# Altium schematic symbol library Summits7Beta_LIB_Otros_Sch.SchLib: 7 symbols
Pins are listed as number, name and electrical type; pins without a type are passive.

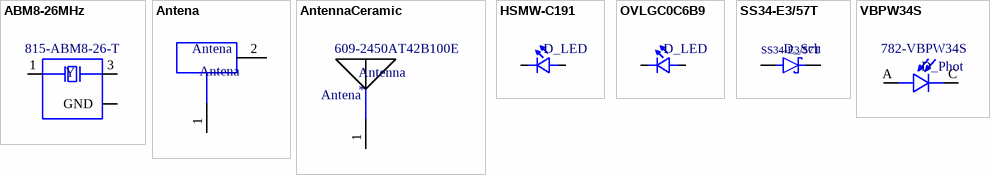
[diagram p0: symbols ABM8-26MHz to VBPW34S]

## ABM8-26MHz
designator Y  Supplier Part Number 1: 815-ABM8-26-T  (hidden comment: *)
26MHz Â±10ppm Crystal 10pF 50 Ohms 4-SMD, No Lead; MP: ABM8-26.000MHZ-10-1-U-T; MF: Abracon; Package: SMD-4 Abracon; SnapEDA_Link: https://www.snapeda.com/parts/ABM8-26.000MHZ-10-1-U-T/Abracon%20LLC/view-part/356267/?ref=snap; Digi-Key_Purchase_URL: https://www.digikey.com/product-detail/en/abracon-llc/ABM8-26.000MHZ-10-1-U-T/300-8230-1-ND/687923?utm_source=snapeda&utm_medium=aggregator&utm_campaign=symbol; Value: *; Digi-Key_Part_Number: 300-8230-1-ND; Supplier 1: Mouser
footprint ABM8-26_OSCSC320X250X100N (Crystal de 26MHz)
pins: 1, 2 GND (power), 3, 4 GND

## Antena
designator Antena  (value not drawn)
Antena PCB
footprint Antena2 (Footprint Antena2)
pins: 1, 2 "GND"

## AntennaCeramic
designator Antenna  Supplier Part Number 1: 609-2450AT42B100E
Antena de Cerámica; Supplier 1: Mouser
footprint ANTENNA_CERAMIC (PCB CERAMIC ANTENNA)
pins: 1
text: Antena

## HSMW-C191
designator D_LED  (value not drawn)
White LED Indication - Discrete 3.6V 0603 _1608 Metric_; MF: Broadcom Limited; MP: HSMW-C191; SnapEDA_Link: https://www.snapeda.com/parts/HSMW-C191/Broadcom%20Limited/view-part/1840124/?ref=snap; Price: None; Value: *; Package: 0603 Broadcom; Availability: Unavailable; Supplier 1: Mouser; Supplier Part Number 1: 630-HSMW-C191
footprint LED_0603 (Footprint_LED_0603)
pins: 1 K2, 2 A2

## OVLGC0C6B9
designator D_LED  (value not drawn)
LED Green-Blue 505nm; MF: Broadcom Limited; MP: HSMW-C191; SnapEDA_Link: https://www.snapeda.com/parts/HSMW-C191/Broadcom%20Limited/view-part/1840124/?ref=snap; Price: None; Value: *; Package: 0603 Broadcom; Availability: Unavailable; Supplier 1: Mouser; Supplier Part Number 1: 828-OVLGC0C6B9
footprint LED (Led True Hole)
pins: 1 K, 2 A

## SS34-E3/57T
designator D_Sch  MP: SS34-E3/57T  (hidden comment: *)
Diode Schottky 40V 3A Surface Mount DO-214AB _SMC_; MF: Vishay; Availability: Unavailable; SnapEDA_Link: https://www.snapeda.com/parts/SS34-E3/57T/Vishay%20Semiconductor%20Diodes%20Division/view-part/104253/?ref=snap; Package: DO-214 Vishay; Value: *; Price: None; Supplier 1: Mouser; Supplier Part Number 1: 625-SS34-E3
footprint SS34_DIOM7959X262N (Footprint del Diodo Schottky)
pins: A, C

## VBPW34S
designator D_Phot  Supplier Part Number 1: 782-VBPW34S  (hidden comment: *)
Photodiode 850nm 25ns 120Â° 2-SMD, Gull Wing; MP: BPW 34 BS-Z; MF: OSRAM Opto; SnapEDA_Link: https://www.snapeda.com/parts/BPW%2034%20BS-Z/OSRAM%20Opto%20Semiconductors%20Inc./view-part/392328/?ref=snap; Value: *; Package: SMD-2 Osram Opto; Price: None; Availability: Unavailable; Supplier 1: Mouser
footprint BPW34S (Footprint Fotodiodo)
pins: A, C